# EAGLE library part DSILC6-4P6 (library Stepper_Driver)
ESD Protection IC for high speed interface (i.e. USB, Ethernet, display and camera serial interfaces.
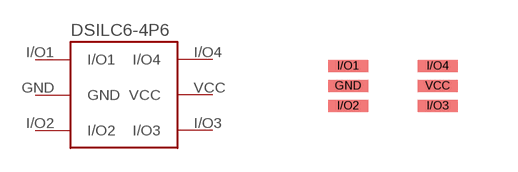
[diagram p0: symbol with the pads of SOT-666; footprint SOT-666]

Designator prefix -

## DSILC6-4P6  [SOT-666]
GND  GND
I/O1  I/O1
I/O2  I/O2
I/O3  I/O3
I/O4  I/O4
VCC  VCC

## Footprint SOT-666 (pad centres in mm)
Small-outline transistor surface mount package
smd 1 x 0.3: GND -1.12,0.02; I/O1 -1.12,0.52; I/O2 -1.12,-0.48; I/O3 1.12,-0.48; I/O4 1.12,0.52; VCC 1.12,0.02